# Altium schematic symbol library Discrete#csv.SchLib: 9 symbols
Pins are listed as number, name and electrical type; pins without a type are passive.

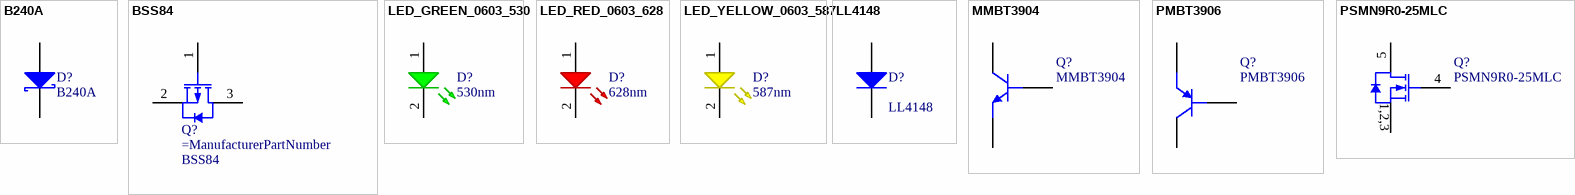
[diagram p0: symbols B240A to PSMN9R0-25MLC]

## B240A
designator D?, comment value B240A  (hidden comment: DIODE-SCHOTTKY)
DIODE SCHOTTKY 40V 2A SMA; Manufacturer: Diodes Incorporated; Manufacturer Part Number: B240A-13-F; Drawn By: Juan I Carrano; Name: B240A; Supplier 1: Digi-Key; Supplier Part Number 1: B240A-FDICT-ND
footprint SMA
pins: 1 A, 2 K

## BSS84
designator Q?  value BSS84
MOSFET P-CH 50V 130MA SOT-23; Manufacturer: Fairchild Semiconductor; Name: BSS84; Manufacturer Part Number: BSS84; Supplier 1: Digi-Key; Supplier Part Number 1: BSS84CT-ND
footprint SOT23-3L
pins: 1 G, 2 S, 3 D

## LED_GREEN_0603_530
designator D?, comment value 530nm  (hidden comment: LED-GREEN)
LED CHIPLED 570NM GREEN 0603 SMD; Manufacturer: OSRAM Opto Semiconductors Inc; Manufacturer Part Number: LG Q971-KN-1; Name: LED_GREEN_0603_530; Drawn By: Juan I Carrano; Supplier 1: Digi-Key; Supplier Part Number 1: 475-1409-1-ND
footprint DSO-F2/D3.4
pins: 1 A, 2 K

## LED_RED_0603_628
designator D?, comment value 628nm  (hidden comment: LED-RED)
LED POINTLED 628NM SUPER RED SMD; Manufacturer: OSRAM Opto Semiconductors Inc; Manufacturer Part Number: LS Q971-KN-1; Name: LED_RED_0603_628; Drawn By: Juan I Carrano; Supplier 1: Digi-Key; Supplier Part Number 1: 475-3016-1-ND
footprint DSO-F2/D3.4
pins: 1 A, 2 K

## LED_YELLOW_0603_587
designator D?, comment value 587nm  (hidden comment: LED-YELLOW)
LED CHIPLED 587NM YLW 0603 SMD; Manufacturer: OSRAM Opto Semiconductors Inc; Manufacturer Part Number: LY Q976-P1S2-36; Name: LED_YELLOW_0603_587; Drawn By: Juan I Carrano; Supplier 1: Digi-Key; Supplier Part Number 1: 475-2558-1-ND
footprint DSO-F2/D3.4
pins: 1 A, 2 K

## LL4148
designator D?, comment value LL4148  (hidden comment: DIODE)
DIODE SMALL SIG 100V 0.2A SOD80; Manufacturer: Fairchild Semiconductor; Drawn By: Juan I Carrano; Name: LL4148; Manufacturer Part Number: LL4148; Supplier 1: Digi-Key; Supplier Part Number 1: LL4148FSCT-ND
signal-integrity model Diode
footprint SOD-80
pins: 1 A, 2 K

## MMBT3904
designator Q?, comment value MMBT3904  (hidden comment: BJT-NPN-BEC)
TRANSISTOR NPN 40V 0.2A SOT23; Manufacturer: NXP Semiconductors; Name: MMBT3904; Manufacturer Part Number: MMBT3904; Supplier 1: Digi-Key; Supplier Part Number 1: 568-4510-1-ND
footprint SOT23-3L
pins: 1 B, 2 E, 3 C

## PMBT3906
designator Q?, comment value PMBT3906  (hidden comment: BJT-PNP-BEC)
TRANSISTOR PNP 40V 0.2A SOT23; Manufacturer: NXP Semiconductors; Name: PMBT3906; Manufacturer Part Number: PMBT3906; Supplier 1: Digi-Key; Supplier Part Number 1: 568-1742-1-ND
footprint SOT23-3L
pins: 1 B, 2 E, 3 C

## PSMN9R0-25MLC
designator Q?  value PSMN9R0-25MLC
TRANSISTOR MOSFET N-CHANN 25V 8.6MOHM; Manufacturer: NXP Semiconductors; Manufacturer Part Number: PSMN9R0-25MLC,115; Name: PSMN9R0-25MLC; Supplier 1: Digi-Key; Supplier Part Number 1: 568-9578-1-ND
footprint x-NXP_LFPAK33
pins: 1 S, 2 S, 3 S, 4 G, 5 D
text: 1,2,3